# Altium footprint library tda1554q.PcbLib: 7 footprints
Each footprint in its own frame and in the unit in brackets; x right, y up, seen from the top. Pads: shape width x height; smd on the part's side, far side on the other; paste and mask are expansions set on the pad; w line width, h text height; cw(c..) or ccw(c..) is an arc to the next point about the centre after c.
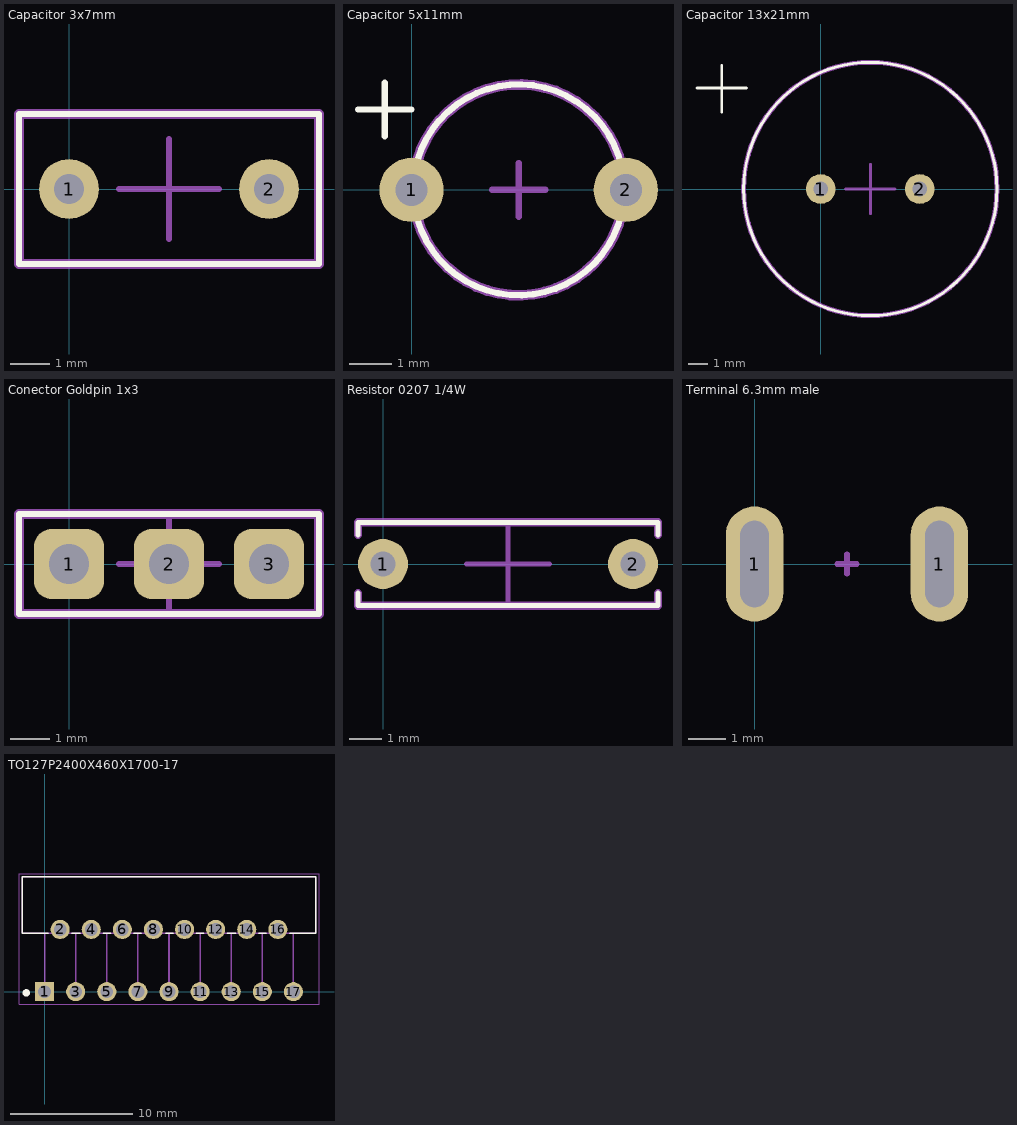
[diagram p0: the footprints below, top view; thin cyan lines are the x and y axes]

## Capacitor 3x7mm [mil]
pads (2):
  round 60 hole 30: 1(0,0) 2(200,0)
Top Overlay:
  lines w5.91: -50,-75 250,-75 250,75 -50,75 -50,-75
Top Assembly:
  lines w5.91: -50,-75 250,-75 250,75 -50,75 -50,-75
Top Courtyard:
  lines w10: -50,-75 250,-75 250,75 -50,75 -50,-75
Top Component Center:
  lines w5.91: 50,0 150,0 ; 100,-50 100,50
3D body: height 200, standoff 0, extent -50,-75 250,75
3D body: height 0, standoff -100, extent 190,-10 210,10
3D body: height 0, standoff -100, extent -10,-10 10,10

## Capacitor 5x11mm [mil]
pads (2):
  round 60 hole 30: 1(0,0) 2(200,0)
Top Overlay:
  circle w5.91: c100,0 r98.43
  lines w5.91: -50,75 0,75 ; -25,50 -25,100
Top Assembly:
  circle w5.91: c100,0 r98.43
Top Courtyard:
  circle w10: c100,0 r98.43
Top Component Center:
  lines w5.91: 75,0 125,0 ; 100,-25 100,25
3D body: height 118.11, standoff 78.74, extent 150.16,-10 169.84,9.69
3D body: height 88.09, standoff 32.41, extent 152.16,-10 207.84,9.69
3D body: height 39.37, standoff -78.74, extent 190.16,-9.84 209.84,9.84
3D body: height 118.11, standoff 78.74, extent 30,-9.84 49.69,9.84
3D body: height 88.09, standoff 32.41, extent -7.84,-10 47.84,9.69
3D body: height 39.37, standoff -78.74, extent -9.84,-9.84 9.84,9.84
3D body: height 533.07, standoff 100, extent 1.57,-98.43 198.43,98.43

## Capacitor 13x21mm [mil]
pads (2):
  round 60 hole 30: 1(0,0) 2(200,0)
Top Overlay:
  circle w5.91: c100,0 r255.91
  lines w5.91: -250,204.33 -150,204.33 ; -200,155.91 -200,250
Top Assembly:
  circle w5.91: c100,0 r255.91
Top Courtyard:
  circle w10: c100,0 r255.91
Top Component Center:
  lines w5.91: 50,0 150,0 ; 100,-50 100,50
3D body: height 826.77, standoff 0, extent -155.91,-255.91 355.91,255.91
3D body: height 0, standoff -100, extent 188.19,-11.81 211.81,11.81
3D body: height 0, standoff -100, extent -11.81,-11.81 11.81,11.81

## Conector Goldpin 1x3 [mil]
pads (3):
  rrect50% 70x70 hole 40: 1(0,0) 2(100,0) 3(200,0)
Top Overlay:
  lines w5.91: -50,-50 -50,50 250,50 250,-50 -50,-50
Top Assembly:
  lines w5.91: -50,-50 -50,50 250,50 250,-50 -50,-50
Top Courtyard:
  lines w10: -50,-50 -50,50 250,50 250,-50 -50,-50
Top Component Center:
  lines w5.91: 50,0 150,0 ; 100,-50 100,50
3D body "61300211121.stp": height 337.4, standoff -116.93, extent 50.01,-49.99 250.01,50.01
3D body "61300211121.stp": height 337.4, standoff -116.93, extent -49.99,-49.99 150.01,50.01

## Resistor 0207 1/4W [mil]
pads (2):
  round 60 hole 30: 1(0,0) 2(300,0)
Top Overlay:
  lines w5.91: -30,-35 -30,-50 330,-50 330,-35 ; -30,35 -30,50 330,50 330,35
Top Assembly:
  lines w5.91: -30,-35 -30,-50 330,-50 330,-35 ; -30,35 -30,50 330,50 330,35
Top Courtyard:
  lines w10: -30,-35 -30,-50 330,-50 330,-35 ; -30,35 -30,50 330,50 330,35
Top Component Center:
  lines w5.91: 100,0 200,0 ; 150,-50 150,50
3D body: height 100, standoff 0, extent 25,-50 275,50
3D body: height 60, standoff 40, extent 0,-10 25,10
3D body: height 60, standoff 40, extent 275,-10 300,10
3D body: height 50, standoff -50, extent -10,-10 10,10
3D body: height 50, standoff -50, extent 290,-10 310,10

## Terminal 6.3mm male [mil]
pads (2):
  oval 60x120 hole 30 slot 90 at 90 deg: 1(0,0) 1(192.91,0)
Top Component Center:
  lines w5.91: 86.46,0 106.46,0 ; 96.46,-10 96.46,10

## TO127P2400X460X1700-17 [mm]
pads (17):
  rect 1.56x1.56 hole 1.04: 1(0,0)
  round 1.56 hole 1.04: 2(1.27,5.08) 3(2.54,0) 4(3.81,5.08) 5(5.08,0) 6(6.35,5.08) 7(7.62,0) 8(8.89,5.08) 9(10.16,0) 10(11.43,5.08) 11(12.7,0) 12(13.97,5.08) 13(15.24,0) 14(16.51,5.08) 15(17.78,0) 16(19.05,5.08) 17(20.32,0)
Top Overlay:
  circle w0.3: c-1.5,-0.1 r0.15
  lines w0.127: 0.3,4.78 -1.84,4.78 -1.84,9.38 22.16,9.38 22.16,4.78 20.02,4.78 ; 2.2,4.78 2.9,4.78 ; 4.8,4.78 5.4,4.78 ; 7.3,4.78 7.9,4.78 ; 9.9,4.78 10.5,4.78 ; 12.4,4.78 13,4.78 ; 14.9,4.78 15.6,4.78 ; 17.5,4.78 18.1,4.78
Top 3D Body:
  lines w0.127: 0,0 0,4.78 ; 2.54,0 2.54,4.78 ; 5.08,0 5.08,4.78 ; 7.62,0 7.62,4.78 ; 10.16,0 10.16,4.78 ; 12.7,0 12.7,4.78 ; 15.24,0 15.24,4.78 ; 17.78,0 17.78,4.78 ; 20.32,0 20.32,4.78 ; 0,4.78 -1.84,4.78 -1.84,9.38 22.16,9.38 22.16,4.78 20.32,4.78 ; 0,4.78 2.54,4.78 ; 2.54,4.78 5.08,4.78 ; 5.08,4.78 7.62,4.78 ; 7.62,4.78 10.16,4.78 ; 10.16,4.78 12.7,4.78 ; 12.7,4.78 15.24,4.78 ; 15.24,4.78 17.78,4.78 ; 17.78,4.78 20.32,4.78
Top Courtyard:
  lines w0.05: -2.09,-1.03 -2.09,9.63 22.41,9.63 22.41,-1.03 -2.09,-1.03